# EAGLE library part TEXAS_INSTRUMENTS-BUCK-CONTROLLER_TPS62147RGXR (library Module_Regulators)
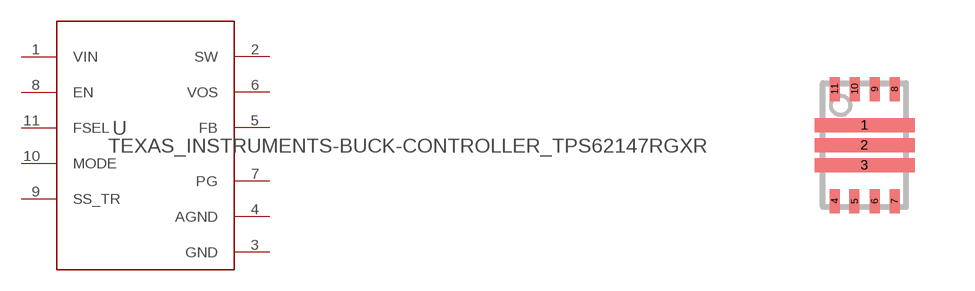
[diagram p42: symbol with the pads of TEXAS_INSTRUMENTS-BUCK-CONTROLLER_TPS62147RGXR; footprint TEXAS_INSTRUMENTS-BUCK-CONTROLLER_TPS62147RGXR]

Designator prefix U

## TEXAS_INSTRUMENTS-BUCK-CONTROLLER_TPS62147RGXR (MANUFACTURER: Texas Instruments; PARTNUMBER: TPS62147RGXR; REFDES: RefDes; TYPE: TYPE; VALUE: Value)  [TEXAS_INSTRUMENTS-BUCK-CONTROLLER_TPS62147RGXR]
1  VIN  pwr
2  SW  pwr
3  GND  pwr
4  AGND  pwr
5  FB  in
6  VOS  in
7  PG  oc
8  EN  in
9  SS_TR  in
10  MODE  in
11  FSEL  in

## Footprint TEXAS_INSTRUMENTS-BUCK-CONTROLLER_TPS62147RGXR (pad centres in mm)
smd 2.5 x 0.35: 1 0,0.5; 2 0,0; 3 0,-0.5
smd 0.25 x 0.6: 4 -0.75,-1.4; 5 -0.25,-1.4; 6 0.25,-1.4; 7 0.75,-1.4; 8 0.75,1.4; 9 0.25,1.4; 10 -0.25,1.4; 11 -0.75,1.4